# Altium schematic symbol library THD Micro Controllers.SchLib: 8 symbols
Pins are listed as number, name and electrical type; pins without a type are passive.

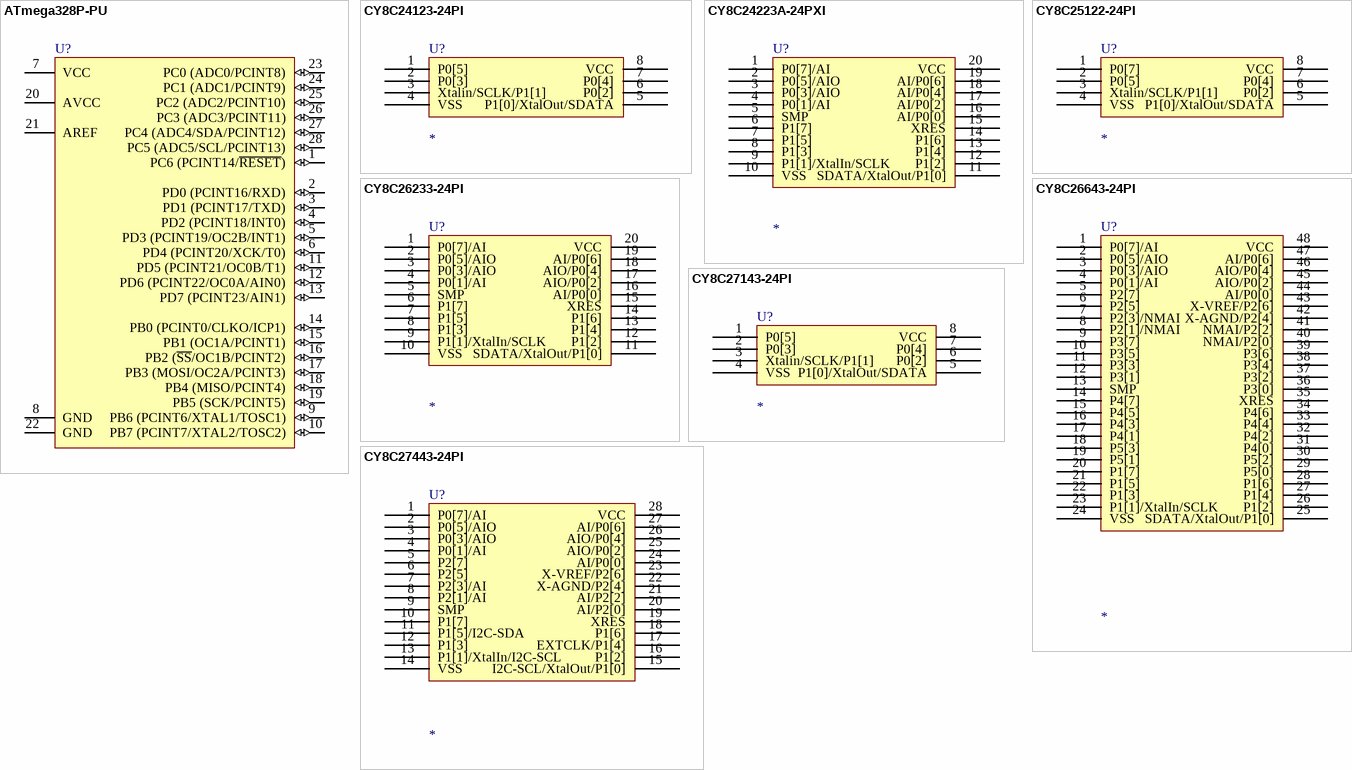
[diagram p0: symbols ATmega328P-PU to CY8C27443-24PI]

## ATmega328P-PU
designator U?
8-bit AVR Microcontroller, 32KB Flash, 1KB EEPROM, 2KB SRAM, 28-pin PDIP, Industrial Grade (-40°C to 85°C); Published: 1-Apr-2010; DatasheetVersion: revA, Jan-2010; PackageVersion: revB, Sep-2001; PackageReference: 28P3; Publisher: Altium Limited; PackageDescription: 28-lead (0.300"/7.62mm Wide) Plastic Dual Inline Package (PDIP); Supplier 1: Digi-Key; Supplier Part Number 1: ATMEGA328P-PU-ND; Supplier 2: Farnell; Supplier Part Number 2: 1715487; Supplier 3: Mouser; Supplier Part Number 3: 556-ATMEGA328P-PU; ComponentLink1Description: Manufacturer Link; ComponentLink1URL: http://www.atmel.com/products/avr/default.asp?; ComponentLink2Description: ATmega48A/48PA/88A/88PA/168A/168PA/328/328P Datasheet; ComponentLink2URL: http://www.atmel.com/dyn/resources/prod_documents/8271.pdf; ComponentLink3Description: ATmega48A/48PA/88A/88PA/168A/168PA/328/328P Summary; ComponentLink3URL: http://www.atmel.com/dyn/resources/prod_documents/8271S.pdf; ComponentLink4Description: Atmel.com Home; ComponentLink4URL: http://www.atmel.com
footprint 28P3 (DIP, 28-Leads, Row Spacing 7.62mm, Pitch 2.54mm, Body 34.67x7.3mm)
pins: 1 PC6 (PCINT14/~{RESET}) (io), 2 PD0 (PCINT16/RXD) (io), 3 PD1 (PCINT17/TXD) (io), 4 PD2 (PCINT18/INT0) (io), 5 PD3 (PCINT19/OC2B/INT1) (io), 6 PD4 (PCINT20/XCK/T0) (io), 7 VCC (power), 8 GND (power), 9 PB6 (PCINT6/XTAL1/TOSC1) (io), 10 PB7 (PCINT7/XTAL2/TOSC2) (io), 11 PD5 (PCINT21/OC0B/T1) (io), 12 PD6 (PCINT22/OC0A/AIN0) (io), 13 PD7 (PCINT23/AIN1) (io), 14 PB0 (PCINT0/CLKO/ICP1) (io), 15 PB1 (OC1A/PCINT1) (io), 16 PB2 (~{SS}/OC1B/PCINT2) (io), 17 PB3 (MOSI/OC2A/PCINT3) (io), 18 PB4 (MISO/PCINT4) (io), 19 PB5 (SCK/PCINT5) (io), 20 AVCC (power), 21 AREF (power), 22 GND (power), 23 PC0 (ADC0/PCINT8) (io), 24 PC1 (ADC1/PCINT9) (io), 25 PC2 (ADC2/PCINT10) (io), 26 PC3 (ADC3/PCINT11) (io), 27 PC4 (ADC4/SDA/PCINT12) (io), 28 PC5 (ADC5/SCL/PCINT13) (io)

## CY8C24123-24PI
designator U?
4k Flash Program, 256 Byte SRAM, 24MHz, 8 Bit, PSoC, Cypress Microcontroller; Text Field2: 8 Digital, 12 Analog PSoC; Text Field3: 6 IO Pins; Text Field1: 4k Flash Program, 256 Byte SRAM, 24MHz, 8 Bit,  PSoC, Cypress Microcontroller; DIP8-300-1: *
footprint DIP8-300 (DIP; 8 Leads; Row Spacing 7.62 mm; Pitch 2.54 mm)
pins: 1 P0[5], 2 P0[3], 3 Xtalin/SCLK/P1[1], 4 VSS, 5 P1[0]/XtalOut/SDATA, 6 P0[2], 7 P0[4], 8 VCC

## CY8C24223A-24PXI
designator U?
4k Flash Program, 256 Byte SRAM, 24MHz, 8 Bit, PSoC, Cypress Microcontroller; Text Field2: 8 Digital, 12 Analog PSoC; Text Field3: 16 IO Pins; Text Field4: External Switch Mode Pump; Text Field1: 4k Flash Program, 256 Byte SRAM, 24MHz, 8 Bit,  PSoC, Cypress Microcontroller; DIP20-300-1: *
footprint DIP-20 (DIP, Molded; 20 Leads; Row Spacing 7.62 mm; Pitch 2.54 mm)
pins: 1 P0[7]/AI, 2 P0[5]/AIO, 3 P0[3]/AIO, 4 P0[1]/AI, 5 SMP, 6 P1[7], 7 P1[5], 8 P1[3], 9 P1[1]/XtalIn/SCLK, 10 VSS, 11 SDATA/XtalOut/P1[0], 12 P1[2], 13 P1[4], 14 P1[6], 15 XRES, 16 AI/P0[0], 17 AI/P0[2], 18 AI/P0[4], 19 AI/P0[6], 20 VCC

## CY8C25122-24PI
designator U?
4k Flash Program, 256 Byte SRAM, 24MHz, 8 Bit, PSoC, Cypress Microcontroller; Text Field2: 8 Digital, 12 Analog PSoC; Text Field3: 6 IO Pins; Text Field1: 4k Flash Program, 256 Byte SRAM, 24MHz, 8 Bit,  PSoC, Cypress Microcontroller; DIP8-300-1: *
footprint DIP8-300 (DIP; 8 Leads; Row Spacing 7.62 mm; Pitch 2.54 mm)
pins: 1 P0[7], 2 P0[5], 3 Xtalin/SCLK/P1[1], 4 VSS, 5 P1[0]/XtalOut/SDATA, 6 P0[2], 7 P0[4], 8 VCC

## CY8C26233-24PI
designator U?
8k Flash Program, 256 Byte SRAM, 24MHz, 8 Bit, PSoC, Cypress Microcontroller; Text Field2: 8 Digital, 12 Analog PSoC; Text Field3: 16 IO Pins; Text Field4: External Switch Mode Pump; Text Field1: 8k Flash Program, 256 Byte SRAM, 24MHz, 8 Bit,  PSoC, Cypress Microcontroller; DIP20-300-1: *
footprint DIP-20 (DIP, Molded; 20 Leads; Row Spacing 7.62 mm; Pitch 2.54 mm)
pins: 1 P0[7]/AI, 2 P0[5]/AIO, 3 P0[3]/AIO, 4 P0[1]/AI, 5 SMP, 6 P1[7], 7 P1[5], 8 P1[3], 9 P1[1]/XtalIn/SCLK, 10 VSS, 11 SDATA/XtalOut/P1[0], 12 P1[2], 13 P1[4], 14 P1[6], 15 XRES, 16 AI/P0[0], 17 AIO/P0[2], 18 AIO/P0[4], 19 AI/P0[6], 20 VCC

## CY8C26643-24PI
designator U?
12k Flash Program, 256 Byte SRAM, 24MHz, 8 Bit, PSoC, Cypress Microcontroller; Text Field2: 8 Digital, 12 Analog PSoC; Text Field3: 40/44 IO Pins; Text Field4: External Switch Mode Pump; Text Field1: 12k Flash Program, 256 Byte SRAM, 24MHz, 8 Bit,  PSoC, Cypress Microcontroller; PDIP48-600: *
footprint DIP-48 (DIP, Sidebraze; 48 Leads; Row Spacing 15.24 mm; Pitch 2.54 mm)
pins: 1 P0[7]/AI, 2 P0[5]/AIO, 3 P0[3]/AIO, 4 P0[1]/AI, 5 P2[7], 6 P2[5], 7 P2[3]/NMAI, 8 P2[1]/NMAI, 9 P3[7], 10 P3[5], 11 P3[3], 12 P3[1], 13 SMP, 14 P4[7], 15 P4[5], 16 P4[3], 17 P4[1], 18 P5[3], 19 P5[1], 20 P1[7], 21 P1[5], 22 P1[3], 23 P1[1]/XtalIn/SCLK, 24 VSS, 25 SDATA/XtalOut/P1[0], 26 P1[2], 27 P1[4], 28 P1[6], 29 P5[0], 30 P5[2], 31 P4[0], 32 P4[2], 33 P4[4], 34 P4[6], 35 XRES, 36 P3[0], 37 P3[2], 38 P3[4], 39 P3[6], 40 NMAI/P2[0], 41 NMAI/P2[2], 42 X-AGND/P2[4], 43 X-VREF/P2[6], 44 AI/P0[0], 45 AIO/P0[2], 46 AIO/P0[4], 47 AI/P0[6], 48 VCC

## CY8C27143-24PI
designator U?
16k Flash Program, 256 Byte SRAM, 24MHz, 8 Bit, PSoC, Cypress Microcontroller; Text Field1: 4k Flash Program, 256 Byte SRAM, 24MHz, 8 Bit,  PSoC, Cypress Microcontroller; Text Field2: 8 Digital, 12 Analog PSoC; Text Field3: 6 IO Pins; DIP8-300-1: *
footprint DIP8-300 (DIP; 8 Leads; Row Spacing 7.62 mm; Pitch 2.54 mm)
pins: 1 P0[5], 2 P0[3], 3 Xtalin/SCLK/P1[1], 4 VSS, 5 P1[0]/XtalOut/SDATA, 6 P0[2], 7 P0[4], 8 VCC

## CY8C27443-24PI
designator U?
12k Flash Program, 256 Byte SRAM, 24MHz, 8 Bit, PSoC, Cypress Microcontroller; Text Field2: 8 Digital, 12 Analog PSoC; Text Field3: 24 IO Pins; Text Field4: External Switch Mode Pump; Text Field1: 12k Flash Program, 256 Byte SRAM, 24MHz, 8 Bit,  PSoC, Cypress Microcontroller; DIP28-300-1: *
footprint DIP-28 (DIP, Molded; 28 Leads; Row Spacing 7.62 mm; Pitch 2.54 mm)
pins: 1 P0[7]/AI, 2 P0[5]/AIO, 3 P0[3]/AIO, 4 P0[1]/AI, 5 P2[7], 6 P2[5], 7 P2[3]/AI, 8 P2[1]/AI, 9 SMP, 10 P1[7], 11 P1[5]/I2C-SDA, 12 P1[3], 13 P1[1]/XtalIn/I2C-SCL, 14 VSS, 15 I2C-SCL/XtalOut/P1[0], 16 P1[2], 17 EXTCLK/P1[4], 18 P1[6], 19 XRES, 20 AI/P2[0], 21 AI/P2[2], 22 X-AGND/P2[4], 23 X-VREF/P2[6], 24 AI/P0[0], 25 AIO/P0[2], 26 AIO/P0[4], 27 AI/P0[6], 28 VCC